# Altium footprint library urover.PCBLIB: 175 footprints (part 7 of 11)
Each footprint in its own frame and in the unit in brackets; x right, y up, seen from the top. Pads: shape width x height; smd on the part's side, far side on the other; paste and mask are expansions set on the pad; w line width, h text height; cw(c..) or ccw(c..) is an arc to the next point about the centre after c.
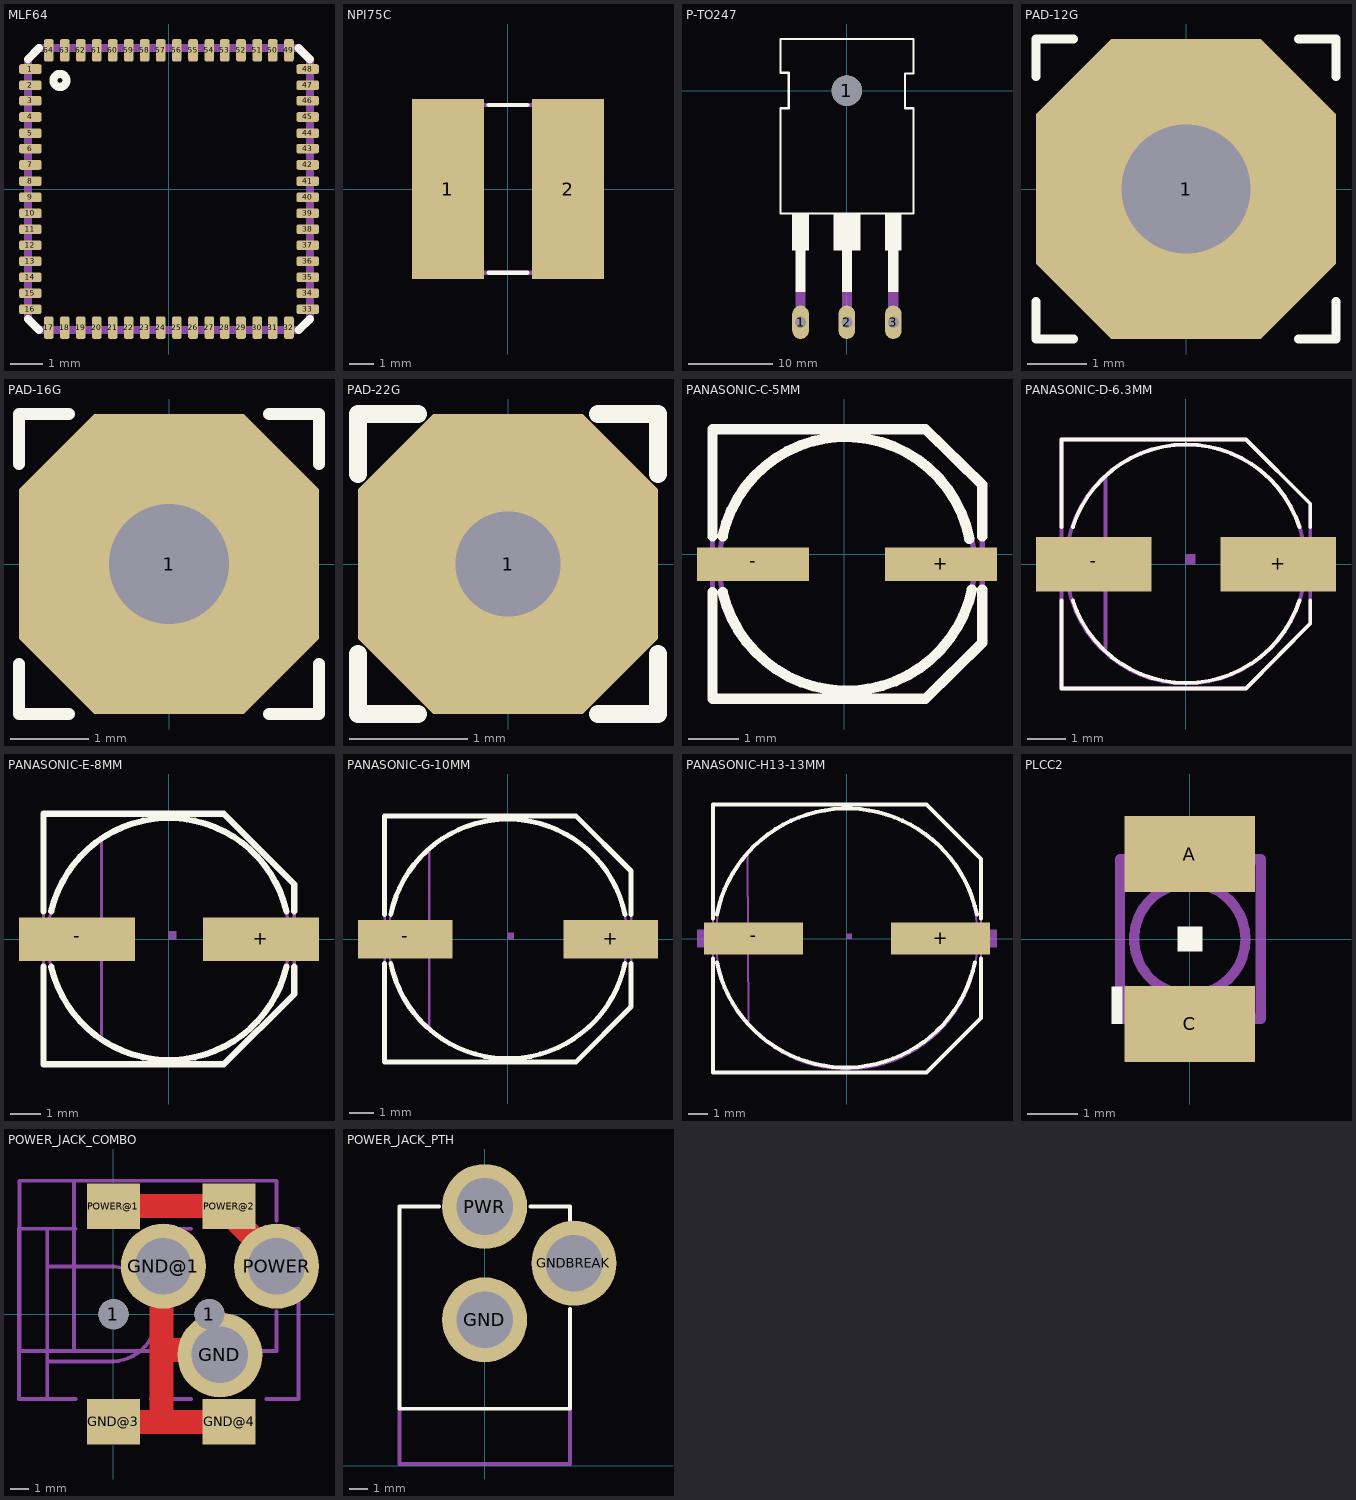
[diagram p6: the footprints below, top view; thin cyan lines are the x and y axes]

## MLF64 [mil]
pads (64):
  rrect50% 28x12 smd: 1(-170.28,148) 2(-170.28,128) 3(-170.28,109) 4(-170.28,89) 5(-170.28,69) 6(-170.28,50) 7(-170.28,30) 8(-170.28,10) 9(-170.28,-9.84) 10(-170.28,-29.53) 11(-170.28,-49.21) 12(-170.28,-68.9) 13(-170.28,-88.58) 14(-170.28,-108.27) 15(-170.28,-127.95) 16(-170.28,-147.64) 33(171,-147.64) 34(171,-127.95) 35(171,-108.27) 36(171,-88.58) 37(171,-68.9) 38(171,-49.21) 39(171,-29.53) 40(171,-9.84) 41(171,10) 42(171,30) 43(171,50) 44(171,69) 45(171,89) 46(171,109) 47(171,128) 48(171,148)
  rrect50% 12x28 smd: 17(-147.64,-170.28) 18(-127.95,-170.28) 19(-108.27,-170.28) 20(-88.58,-170.28) 21(-68.9,-170.28) 22(-49.21,-170.28) 23(-29.53,-170.28) 24(-9.84,-170.28) 25(10,-170.28) 26(30,-170.28) 27(50,-170.28) 28(69,-170.28) 29(89,-170.28) 30(109,-170.28) 31(128,-170.28) 32(148,-170.28) 49(148,171) 50(128,171) 51(109,171) 52(89,171) 53(69,171) 54(50,171) 55(30,171) 56(10,171) 57(-9.84,171) 58(-29.53,171) 59(-49.21,171) 60(-68.9,171) 61(-88.58,171) 62(-108.27,171) 63(-127.95,171) 64(-147.64,171)
Top Overlay:
  circle w10: c-133.86,134 r8
  lines w10: -173.23,-159.45 -159.45,-173.23 ; -173.23,160 -159.45,174 ; 160,-173.23 174,-159.45 ; 160,174 174,160
Mechanical 16:
  rectangle: -177.17,143 -157.48,153
  rectangle: -177.17,124 -157.48,133
  rectangle: -177.17,104 -157.48,114
  rectangle: -177.17,84 -157.48,94
  rectangle: -177.17,64 -157.48,74
  rectangle: -177.17,45 -157.48,55
  rectangle: -177.17,25 -157.48,35
  rectangle: -177.17,5 -157.48,15
  rectangle: -177.17,-14.76 -157.48,-4.92
  rectangle: -177.17,-34.45 -157.48,-24.61
  rectangle: -177.17,-54.13 -157.48,-44.29
  rectangle: -177.17,-73.82 -157.48,-63.98
  rectangle: -177.17,-93.5 -157.48,-83.66
  rectangle: -177.17,-113.19 -157.48,-103.35
  rectangle: -177.17,-132.87 -157.48,-123.03
  rectangle: -177.17,-152.56 -157.48,-142.72
  rectangle: -152.56,-177.17 -142.72,-157.48
  rectangle: -132.87,-177.17 -123.03,-157.48
  rectangle: -113.19,-177.17 -103.35,-157.48
  rectangle: -93.5,-177.17 -83.66,-157.48
  rectangle: -73.82,-177.17 -63.98,-157.48
  rectangle: -54.13,-177.17 -44.29,-157.48
  rectangle: -34.45,-177.17 -24.61,-157.48
  rectangle: -14.76,-177.17 -4.92,-157.48
  rectangle: 5,-177.17 15,-157.48
  rectangle: 25,-177.17 35,-157.48
  rectangle: 45,-177.17 55,-157.48
  rectangle: 64,-177.17 74,-157.48
  rectangle: 84,-177.17 94,-157.48
  rectangle: 104,-177.17 114,-157.48
  rectangle: 124,-177.17 133,-157.48
  rectangle: 143,-177.17 153,-157.48
  rectangle: 158,-152.56 178,-142.72
  rectangle: 158,-132.87 178,-123.03
  rectangle: 158,-113.19 178,-103.35
  rectangle: 158,-93.5 178,-83.66
  rectangle: 158,-73.82 178,-63.98
  rectangle: 158,-54.13 178,-44.29
  rectangle: 158,-34.45 178,-24.61
  rectangle: 158,-14.76 178,-4.92
  rectangle: 158,5 178,15
  rectangle: 158,25 178,35
  rectangle: 158,45 178,55
  rectangle: 158,64 178,74
  rectangle: 158,84 178,94
  rectangle: 158,104 178,114
  rectangle: 158,124 178,133
  rectangle: 158,143 178,153
  rectangle: 143,158 153,178
  rectangle: 124,158 133,178
  rectangle: 104,158 114,178
  rectangle: 84,158 94,178
  rectangle: 64,158 74,178
  rectangle: 45,158 55,178
  rectangle: 25,158 35,178
  rectangle: 5,158 15,178
  rectangle: -14.76,158 -4.92,178
  rectangle: -34.45,158 -24.61,178
  rectangle: -54.13,158 -44.29,178
  rectangle: -73.82,158 -63.98,178
  rectangle: -93.5,158 -83.66,178
  rectangle: -113.19,158 -103.35,178
  rectangle: -132.87,158 -123.03,178
  rectangle: -152.56,158 -142.72,178
  lines w10: -173.23,-159.45 -173.23,160 ; -159.45,-173.23 160,-173.23 ; -159.45,174 160,174 ; 174,-159.45 174,160

## NPI75C [mil]
pads (2):
  rect 119x296 smd: 1(-98.43,0) 2(99,0)
Top Overlay:
  lines w7: -31.5,-137.8 32,-137.8 ; -31.5,138 32,138
Mechanical 16:
  lines w7: -153.54,-137.8 -153.54,138 154,138 154,-137.8 -153.54,-137.8

## P-TO247 [mil]
pads (4):
  oval 78x156 hole 52: 1(-216.54,-1082.68) 2(0,-1082.68) 3(217,-1082.68)
  round 142 hole 142: 1(0,0)
Top Overlay:
  rectangle: -62.99,-748.03 63,-578.74
  rectangle: -255.91,-748.03 -177.17,-578.74
  rectangle: 178,-748.03 256,-578.74
  rectangle: -240.16,-940.94 -192.91,-748.03
  rectangle: -23.62,-940.94 24,-748.03
  rectangle: 193,-940.94 241,-748.03
  lines w10: -311.02,-574.8 312,-574.8 312,-82.68 272,-82.68 272,79 312,79 312,241 -311.02,241 -311.02,83 -271.65,83 -271.65,-82.68 -311.02,-82.68 -311.02,-574.8
Mechanical 16:
  rectangle: -23.62,-1082.68 24,-940.94
  rectangle: 193,-1082.68 241,-940.94
  rectangle: -240.16,-1082.68 -192.91,-940.94

## PAD-12G [mil]
pads (1):
  oct 200x200 hole 86: 1(0,0)
Top Overlay:
  lines w6: -100,-75 -100,-100 -75,-100 ; -100,75 -100,100 -75,100 ; 75,-100 100,-100 100,-75 ; 75,100 100,100 100,75
Mechanical 16:
  circle w6: c0,0 r50

## PAD-16G [mil]
pads (1):
  oct 150x150 hole 60: 1(0,0)
Top Overlay:
  lines w6: -75,-50 -75,-75 -50,-75 ; -75,50 -75,75 -50,75 ; 50,-75 75,-75 75,-50 ; 50,75 75,75 75,50
Mechanical 16:
  circle w6: c0,0 r50

## PAD-22G [mil]
pads (1):
  oct 100x100 hole 35: 1(0,0)
Top Overlay:
  lines w6: -50,-30 -50,-50 -30,-50 ; -50,30 -50,50 -30,50 ; 30,-50 50,-50 50,-30 ; 30,50 50,50 50,30
Mechanical 16:
  circle w6: c0,0 r25

## PANASONIC-C-5MM [mil]
pads (2):
  rect 87x26 smd: +(75,-7.87) -(-70.87,-7.87)
Top Overlay:
  lines w8: -102.36,-29.53 -102.36,-112.2 63,-112.2 107,-68.9 107,-27.56 ; -102.36,14 -102.36,97 63,97 107,54 107,14 ; -94.49,-29.53 ccw(c2.03,-6.83) 99,-27.56 ; -94.49,14 cw(c1.05,-6.74) 97,12
Mechanical 16:
  circle w4: c2,-7.87 r99
  lines w4: -102.36,-112.2 63,-112.2 107,-68.9 107,54 63,97 -102.36,97 -102.36,-112.2

## PANASONIC-D-6.3MM [mil]
pads (2):
  rect 119x56 smd: +(95,0) -(-94.49,0)
Top Overlay:
  lines w4: -127.95,-37.4 -127.95,-127.95 62,-127.95 128,-61.02 128,-37.4 ; -127.95,38 -127.95,128 62,128 128,62 128,38 ; -116.14,-37.4 ccw(c0.43,0.14) 117,-37.4 ; -116.14,38 cw(c0.43,0.46) 117,38
Mechanical 16:
  circle w4: c0,0 r123
  rectangle: -143.7,-13.78 -120.08,14
  rectangle: 121,-13.78 144,14
  region: 0,0 10,0 10,10 0,10
  lines w4: -82.68,-86.61 -82.68,89 ; -127.95,-127.95 62,-127.95 128,-61.02 128,62 62,128 -127.95,128 -127.95,-127.95

## PANASONIC-E-8MM [mil]
pads (2):
  rect 150x56 smd: +(119,0) -(-118.11,0)
Top Overlay:
  lines w8: -161.42,-35.43 -161.42,-161.42 71,-161.42 162,-70.87 162,-35.43 ; -161.42,36 -161.42,162 71,162 162,71 162,36 ; -151.57,-35.43 ccw(c0.21,0.05) 152,-35.43 ; -151.57,36 cw(c0.21,0.52) 152,36
Mechanical 16:
  circle w4: c0,0 r156
  rectangle: -177.17,-13.78 -149.61,14
  rectangle: 150,-13.78 178,14
  region: 0,0 10,0 10,10 0,10
  lines w4: -86.61,-127.95 -86.61,128 ; -161.42,-161.42 71,-161.42 162,-70.87 162,71 71,162 -161.42,162 -161.42,-161.42

## PANASONIC-G-10MM [mil]
pads (2):
  rect 154x63 smd: +(168,0) -(-167.32,0)
Top Overlay:
  lines w8: -200.79,-39.37 -200.79,-200.79 111,-200.79 201,-110.24 201,-39.37 ; -200.79,40 -200.79,201 111,201 201,111 201,40 ; -190.94,-39.37 ccw(c0.03,0.01) 191,-39.37 ; -190.94,40 cw(c0.03,0.62) 191,40
Mechanical 16:
  circle w4: c0,0 r195
  rectangle: -230.31,-17.72 -192.91,18
  rectangle: 193,-17.72 231,18
  region: 0,0 10,0 10,10 0,10
  lines w4: -127.95,-143.7 -127.95,146 ; -200.79,-200.79 111,-200.79 201,-110.24 201,111 111,201 -200.79,201 -200.79,-200.79

## PANASONIC-H13-13MM [mil]
pads (2):
  rect 197x63 smd: +(186,0) -(-185.04,0)
Top Overlay:
  lines w8: -265.75,-39.37 -265.75,-265.75 158,-265.75 266,-157.48 266,-39.37 ; -265.75,40 -265.75,266 158,266 266,158 266,40 ; -257.87,-47.24 ccw(c-1.94,5.54) 254,-47.24 ; -257.87,48 cw(c0.06,-5.19) 258,48
Mechanical 16:
  circle w4: c0,0 r260
  rectangle: -297.24,-17.72 -259.84,18
  rectangle: 260,-17.72 298,18
  region: 0,0 10,0 10,10 0,10
  lines w4: -196.85,168 -194.88,-171.26 ; -265.75,-265.75 158,-265.75 266,-157.48 266,158 158,266 -265.75,266 -265.75,-265.75

## PCBComponent_1 [mil]

## PCBComponent_1 - duplicate [mil]

## PLCC2 [mil]
pads (2):
  rect 103x60 smd: A(0,67) C(0,-66.93)
Top Overlay:
  rectangle: -9.84,-9.84 10,10
  rectangle: -62.01,-66.93 -53.15,-37.4
Top Paste:
  rectangle: -51.18,-88.58 52,-29.53
  rectangle: -51.18,30 52,89
Top Solder:
  rectangle: -55.12,26 56,93
  rectangle: -55.12,-92.52 56,-25.59
Mechanical 16:
  circle w8: c0,0 r44
  lines w4: -43.31,-62.99 -43.31,-70.87 44,-70.87 44,-62.99 ; -43.31,63 -43.31,71 44,71 44,63
  lines w8: -55.12,-41.34 -55.12,-62.99 -43.31,-62.99 -33.46,-62.99 ; -55.12,-41.34 -33.46,-62.99 ; -55.12,-41.34 -55.12,63 -43.31,63 44,63 56,63 56,-62.99 44,-62.99 -33.46,-62.99

## POWER_JACK_COMBO [mil]
pads (9):
  round 63 hole 63: 1(0,0) 1(200,0)
  round 177 hole 118: GND(222,-85.04) GND@1(104,100) POWER(340,100)
  rect 111x95 smd: GND@3(0,-224.41) GND@4(241,-224.41) POWER@1(0,225) POWER@2(241,225)
Top Layer:
  lines w50: 0,-225 100,-225 ; 0,225 250,225 250,200 350,100 ; 100,100 100,-75 ; 225,-75 100,-75 ; 250,-225 100,-225 ; 100,-225 100,-75
Mechanical 16:
  lines w8: -78.74,-177.17 -137.8,-177.17 ; -78.74,178 -137.8,178 ; 79,-177.17 162,-177.17 ; 79,178 162,178 ; 127,-77.17 -81.89,-77.17 ; 312,-77.17 340,-77.17 340,6 ; 319,-177.17 386,-177.17 386,178 323,178 ; 340,195 340,278 -81.89,278 ; -137.8,-177.17 -196.85,-177.17 -196.85,178 -137.8,178 ; -137.8,-177.17 -137.8,-98.43 ; -137.8,-98.43 -137.8,99 ; -137.8,-98.43 0,-98.43 ccw(c-4.21,-4.21) 90,0 ccw(c-4.5,4.5) 0,99 -137.8,99 ; -137.8,99 -137.8,178 ; -81.89,-77.17 -196.06,-77.17 -196.06,278 -81.89,278 ; -81.89,-77.17 -81.89,278

## POWER_JACK_PTH [mil]
pads (3):
  round 177 hole 118: GND(0,304) GNDBREAK(186,422) PWR(0,540)
Top Overlay:
  lines w8: -94.49,540 -177.17,540 -177.17,119 178,119 178,327 ; 95,540 178,540 178,512
Mechanical 16:
  lines w8: -177.17,119 -177.17,4 178,4 178,119